# Altium schematic symbol library serial_integrated_circuits.SchLib: 15 symbols
Pins are listed as number, name and electrical type; pins without a type are passive.

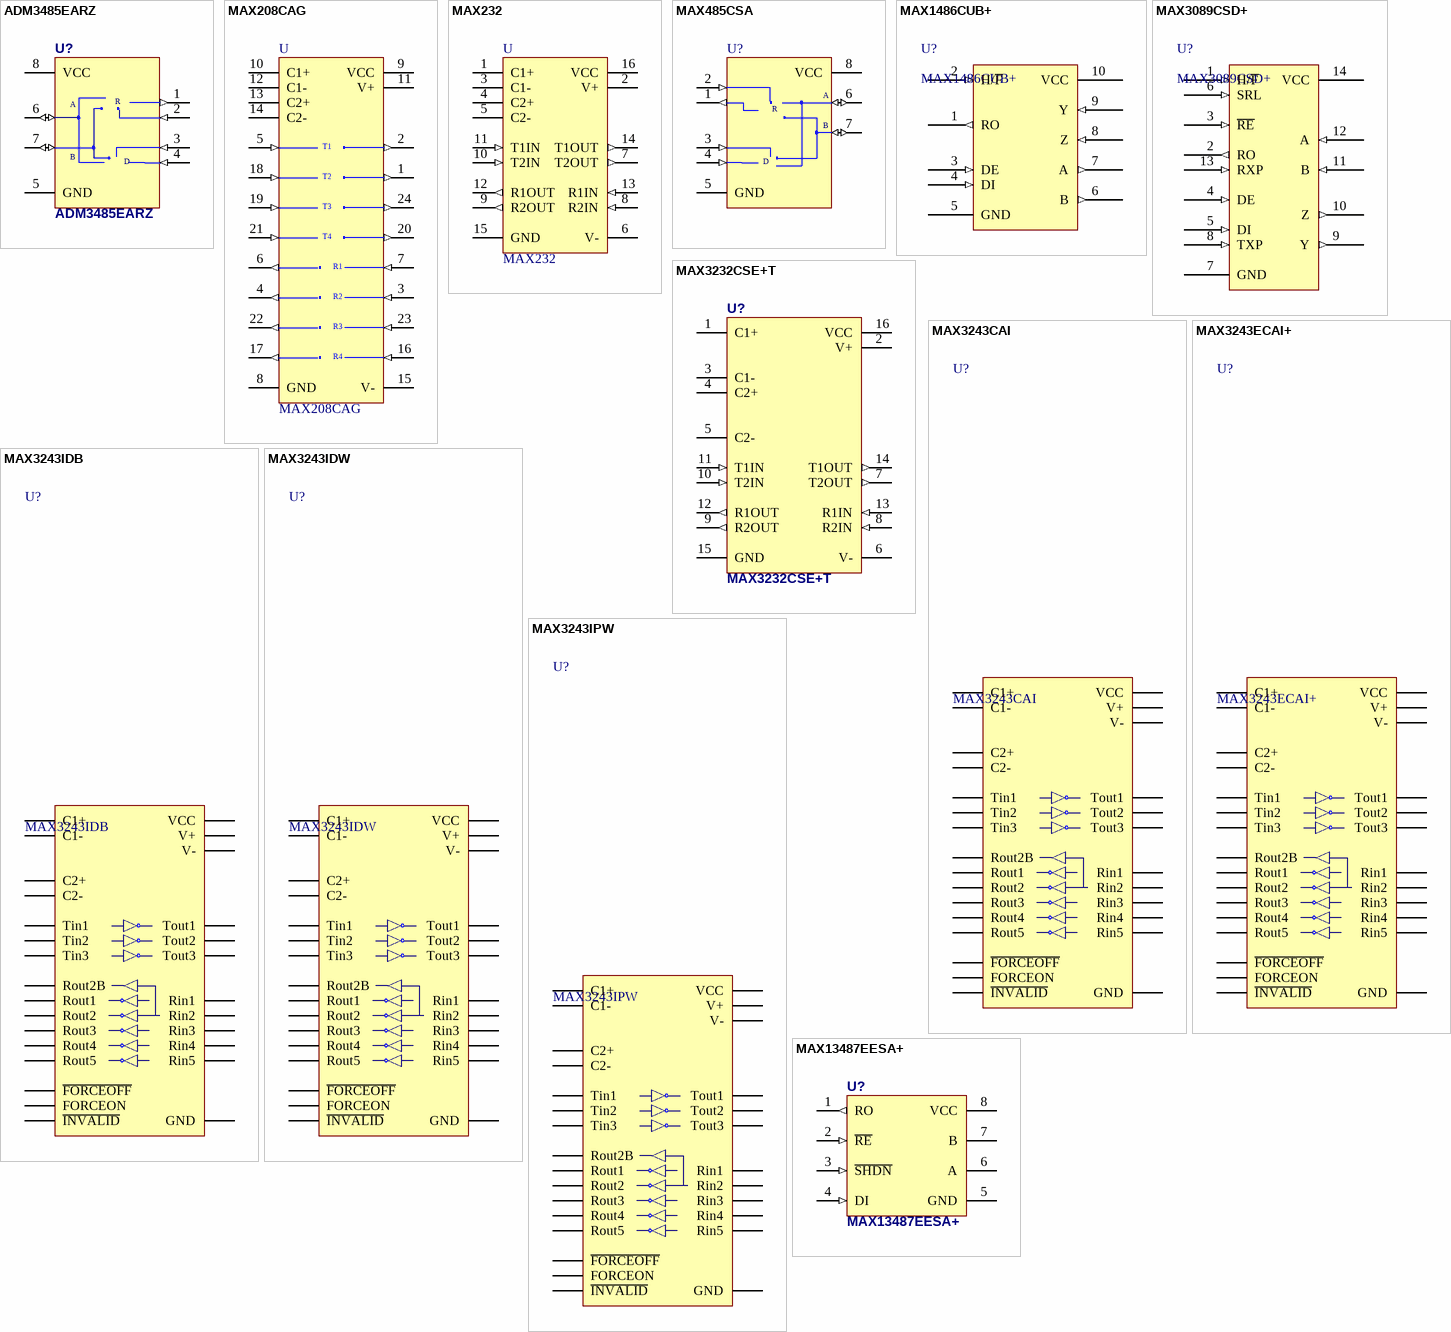
[diagram p0: symbols ADM3485EARZ to MAX13487EESA+]

## ADM3485EARZ
designator U?
Low-Power, 10Mbps, 3V3, RS-485/RS-422 Transceiver (TME ADM3485ARZ); Published: 14-Aug-2008; LatestRevisionNote: IPC-7351 Footprint Added.; PackageReference: R-8; Publisher: mmakow; PackageDescription: 8-Pin Small Outline Integrated Circuit 1.27 mm Pitch
footprint SO8 (Small Outline; 8 Leads; Body Width 3.7 mm; Pitch 1.27 mm)
pins: 1 RO (out), 2 ~{RE} (in), 3 DE (in), 4 DI (in), 5 GND (power), 6 A (io), 7 B (io), 8 VCC (power)
text: R; D

## MAX208CAG
designator U
+5V RS-232 Transceiver with 0.1µF External Capacitor; Published: 16-Jan-2001; LatestRevisionDate: 06-Jun-2005; LatestRevisionNote: Stylized 3D Model Added.; DatasheetVersion: Dec-1996; PackageVersion: 1996; PackageReference: SSOP24; Publisher: Altium Limited; PackageDescription: SSOP; 24 Leads; Body Width 5.3 mm; Pitch 0.65 mm; ComponentLink1Description: Manufacturer Link; ComponentLink1URL: http://www.maxim-ic.com/; ComponentLink2Description: Datasheet; ComponentLink2URL: http://pdfserv.maxim-ic.com/en/ds/MAX200-MAX213.pdf
footprint SSOP24
pins: 1 T2OUT (out), 2 T1OUT (out), 3 R2IN (in), 4 R2OUT (out), 5 T1IN (in), 6 R1OUT (out), 7 R1IN (in), 8 GND (power), 9 VCC (power), 10 C1+, 11 V+ (power), 12 C1-, 13 C2+, 14 C2-, 15 V- (power), 16 R4IN (in), 17 R4OUT (out), 18 T2IN (in), 19 T3IN (in), 20 T4OUT (out), 21 T4IN (in), 22 R3OUT (out), 23 R3IN (in), 24 T3OUT (out)
text: T1; T2; T3; T4; R1; R2; R3; R4

## MAX232
designator U
+5V Powered, Multi-Channel RS-232 Driver/Receiver; Code - JEDEC: MS-012-AC; Code - IPC: SO16; Published: 16-Jan-2001; Revision: 17-Jul-2002: Re-released for DXP Platform.; Package Reference: NSO16; Publisher: Altium Limited
footprint SO16 (Small Outline; 16 Leads; Body Width 3.9 mm; Pitch 1.27 mm)
footprint SO16NW
pins: 1 C1+, 2 V+ (power), 3 C1-, 4 C2+, 5 C2-, 6 V- (power), 7 T2OUT (out), 8 R2IN (in), 9 R2OUT (out), 10 T2IN (in), 11 T1IN (in), 12 R1OUT (out), 13 R1IN (in), 14 T1OUT (out), 15 GND (power), 16 VCC (power)

## MAX485CSA
designator U?
Low-Power, Slew-Rate-Limited RS-485/RS-422 Transceiver; Published: 16-Jan-2001; LatestRevisionDate: 13-Apr-2006; LatestRevisionNote: IPC-7351 Footprint Added.; DatasheetVersion: Feb-1996; PackageReference: NSO8; Publisher: Altium Limited; PackageDescription: 8-Pin Small Outline Integrated Circuit 1.27 mm Pitch; Code_JEDEC: MS-012-AA; Code_IPC: SOIC127P600-8; ComponentLink1Description: Manufacturer Link; ComponentLink1URL: http://www.maxim-ic.com/; ComponentLink2Description: Datasheet; ComponentLink2URL: http://pdfserv.maxim-ic.com/en/ds/MAX1487-MAX491.pdf
footprint SO8 (Small Outline; 8 Leads; Body Width 3.7 mm; Pitch 1.27 mm)
pins: 1 RO (out), 2 ~{RE} (in), 3 DE (in), 4 DI (in), 5 GND (power), 6 A (io), 7 B (io), 8 VCC (power)
text: R; D

## MAX1486CUB+
designator U?
12Mbps, Half-/Full-Duplex Selectable, Slew-Rate-Limited, RS485/RS422 Transciver
pins: 1 RO (out), 2 H/~{F} (in), 3 DE (in), 4 DI (in), 5 GND (power), 6 B (out), 7 A (out), 8 Z (in), 9 Y (in), 10 VCC (power)

## MAX3089CSD+
designator U?
Fail-Safe, High-Speed (10Mbps), Half/Full Duplex Selectable, Slew-Rate Limited RS485/RS422 Transciver
footprint DIP14
footprint SO14 (Small Outline; 14 Leads; Body Width 3.9 mm; Pitch 1.27 mm)
pins: 1 H/~{F} (in), 2 RO (out), 3 ~{RE} (in), 4 DE (in), 5 DI (in), 6 SRL (in), 7 GND (power), 8 TXP (in), 9 Y (out), 10 Z (out), 11 B (in), 12 A (in), 13 RXP (in), 14 VCC (power)

## MAX3232CSE+T
designator U?
3.0V TO 5.5V, Low-Power, up to 1Mbps, True RS-232 Transceiver Using Four 0.1µF External Capacitor; Code - JEDEC: MS-012-AC; Code - IPC: SO16; Published: 16-Jan-2001; Revision: 17-Jul-2002: Re-released for DXP Platform.; Datasheet: Latest Revision: Mar-1999; Package Reference: NSO16; Publisher: Altium Limited
footprint SO16 (Small Outline; 16 Leads; Body Width 3.9 mm; Pitch 1.27 mm)
footprint SO16NW
pins: 1 C1+, 2 V+ (power), 3 C1-, 4 C2+, 5 C2-, 6 V- (power), 7 T2OUT (out), 8 R2IN (in), 9 R2OUT (out), 10 T2IN (in), 11 T1IN (in), 12 R1OUT (out), 13 R1IN (in), 14 T1OUT (out), 15 GND (power), 16 VCC (power)

## MAX3243CAI
designator U?
1uA, 3V to 5.5V Multichannel RS232 Line Driver/Receiver; Symbol: MAX3243ECAI; ComponentLink1Description: Manufacturer Link; ComponentLink1URL: http://www.maximintegrated.com/datasheet/index.mvp/id/1069; ComponentLink2Description: Datasheet; ComponentLink2URL: http://datasheets.maximintegrated.com/en/ds/MAX3221-MAX3243.pdf
footprint SSOP28
pins: 1 C2+ "Shield", 2 C2- "Shield", 3 V- "Shield", 4 Rin1 "Shield", 5 Rin2 "Shield", 6 Rin3 "Shield", 7 Rin4 "Shield", 8 Rin5 "Shield", 9 Tout1 "Shield", 10 Tout2 "Shield", 11 Tout3 "Shield", 12 Tin3 "Shield", 13 Tin2 "Shield", 14 Tin1 "Shield", 15 Rout5 "Shield", 16 Rout4 "Shield", 17 Rout3 "Shield", 18 Rout2 "Shield", 19 Rout1 "Shield", 20 Rout2B "Shield", 21 ~{INVALID} "Shield", 22 ~{FORCEOFF} "Shield", 23 FORCEON "Shield", 24 C1- "Shield", 25 GND "Shield", 26 VCC "Shield", 27 V+ "Shield", 28 C1+ "Shield"

## MAX3243ECAI+
designator U?
15kV ESD-Protected, 1uA, 3V to 5.5V Multichannel RS232 Line Driver/Receiver; Symbol: MAX3243ECAI; ComponentLink1Description: Manufacturer Link; ComponentLink1URL: http://www.maximintegrated.com/datasheet/index.mvp/id/1781; ComponentLink2Description: Datasheet; ComponentLink2URL: http://datasheets.maximintegrated.com/en/ds/MAX3221E-MAX3243E.pdf
footprint SSOP28
pins: 1 C2+ "Shield", 2 C2- "Shield", 3 V- "Shield", 4 Rin1 "Shield", 5 Rin2 "Shield", 6 Rin3 "Shield", 7 Rin4 "Shield", 8 Rin5 "Shield", 9 Tout1 "Shield", 10 Tout2 "Shield", 11 Tout3 "Shield", 12 Tin3 "Shield", 13 Tin2 "Shield", 14 Tin1 "Shield", 15 Rout5 "Shield", 16 Rout4 "Shield", 17 Rout3 "Shield", 18 Rout2 "Shield", 19 Rout1 "Shield", 20 Rout2B "Shield", 21 ~{INVALID} "Shield", 22 ~{FORCEOFF} "Shield", 23 FORCEON "Shield", 24 C1- "Shield", 25 GND "Shield", 26 VCC "Shield", 27 V+ "Shield", 28 C1+ "Shield"

## MAX3243IDB
designator U?
3V to 5.5V Multichannel RS232 Line Driver/Receiver, -40-85*C, SSOP28 Package; Symbol: MAX3243ECAI; ComponentLink1Description: Manufacturer Link; ComponentLink1URL: http://www.ti.com/product/max3243; ComponentLink2Description: Datasheet; ComponentLink2URL: http://www.ti.com/lit/ds/symlink/max3243.pdf
footprint SSOP28
pins: 1 C2+ "Shield", 2 C2- "Shield", 3 V- "Shield", 4 Rin1 "Shield", 5 Rin2 "Shield", 6 Rin3 "Shield", 7 Rin4 "Shield", 8 Rin5 "Shield", 9 Tout1 "Shield", 10 Tout2 "Shield", 11 Tout3 "Shield", 12 Tin3 "Shield", 13 Tin2 "Shield", 14 Tin1 "Shield", 15 Rout5 "Shield", 16 Rout4 "Shield", 17 Rout3 "Shield", 18 Rout2 "Shield", 19 Rout1 "Shield", 20 Rout2B "Shield", 21 ~{INVALID} "Shield", 22 ~{FORCEOFF} "Shield", 23 FORCEON "Shield", 24 C1- "Shield", 25 GND "Shield", 26 VCC "Shield", 27 V+ "Shield", 28 C1+ "Shield"

## MAX3243IDW
designator U?
3V to 5.5V Multichannel RS232 Line Driver/Receiver, -40-85*C, SO28 Package; Symbol: MAX3243ECAI; ComponentLink1Description: Manufacturer Link; ComponentLink1URL: http://www.ti.com/product/max3243; ComponentLink2Description: Datasheet; ComponentLink2URL: http://www.ti.com/lit/ds/symlink/max3243.pdf
footprint SO28 (Small Outline; 28 Leads; Body Width 8.38 mm; Pitch 1.27 mm)
pins: 1 C2+ "Shield", 2 C2- "Shield", 3 V- "Shield", 4 Rin1 "Shield", 5 Rin2 "Shield", 6 Rin3 "Shield", 7 Rin4 "Shield", 8 Rin5 "Shield", 9 Tout1 "Shield", 10 Tout2 "Shield", 11 Tout3 "Shield", 12 Tin3 "Shield", 13 Tin2 "Shield", 14 Tin1 "Shield", 15 Rout5 "Shield", 16 Rout4 "Shield", 17 Rout3 "Shield", 18 Rout2 "Shield", 19 Rout1 "Shield", 20 Rout2B "Shield", 21 ~{INVALID} "Shield", 22 ~{FORCEOFF} "Shield", 23 FORCEON "Shield", 24 C1- "Shield", 25 GND "Shield", 26 VCC "Shield", 27 V+ "Shield", 28 C1+ "Shield"

## MAX3243IPW
designator U?
3V to 5.5V Multichannel RS232 Line Driver/Receiver, -40-85*C, TSSOP28 Package; Symbol: MAX3243ECAI; ComponentLink1Description: Manufacturer Link; ComponentLink1URL: http://www.ti.com/product/max3243; ComponentLink2Description: Datasheet; ComponentLink2URL: http://www.ti.com/lit/ds/symlink/max3243.pdf
footprint TSSOP28
pins: 1 C2+ "Shield", 2 C2- "Shield", 3 V- "Shield", 4 Rin1 "Shield", 5 Rin2 "Shield", 6 Rin3 "Shield", 7 Rin4 "Shield", 8 Rin5 "Shield", 9 Tout1 "Shield", 10 Tout2 "Shield", 11 Tout3 "Shield", 12 Tin3 "Shield", 13 Tin2 "Shield", 14 Tin1 "Shield", 15 Rout5 "Shield", 16 Rout4 "Shield", 17 Rout3 "Shield", 18 Rout2 "Shield", 19 Rout1 "Shield", 20 Rout2B "Shield", 21 ~{INVALID} "Shield", 22 ~{FORCEOFF} "Shield", 23 FORCEON "Shield", 24 C1- "Shield", 25 GND "Shield", 26 VCC "Shield", 27 V+ "Shield", 28 C1+ "Shield"

## MAX13487EESA+
designator U?  (no BOM)
Half-Duplex RS-485-/RS-422-  Compatible Transceiver with  AutoDirection Control; Published: 14-Sep-2006; Supplier 1: Farnell; Supplier 2: Farnell; Supplier Part Number 1: 2511933RL; Supplier Part Number 2: 1593308
footprint SO8 (Small Outline; 8 Leads; Body Width 3.7 mm; Pitch 1.27 mm)
pins: 1 RO (out), 2 ~{RE} (in), 3 ~{SHDN} (in), 4 DI (in), 5 GND, 6 A, 7 B, 8 VCC

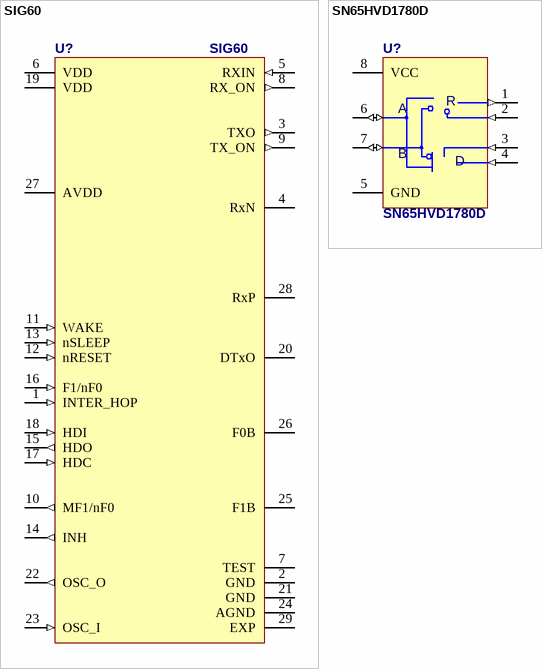
[diagram p1: symbols SIG60 to SN65HVD1780D]

## SIG60
designator U?
UART over Powerline,  for AC/DC Multiplex Network
footprint QFN-ML28_N (QFN, 28-Leads, Body 6x6 mm, Pitch 0.65mm, IPC Medium Density)
pins: 1 INTER_HOP (in), 2 GND, 3 TXO (out), 4 RxN, 5 RXIN (in), 6 VDD, 7 TEST, 8 RX_ON (out), 9 TX_ON (out), 10 MF1/nF0 (out), 11 WAKE (in), 12 nRESET (in), 13 nSLEEP (in), 14 INH (out), 15 HDO (out), 16 F1/nF0 (in), 17 HDC (in), 18 HDI (in), 19 VDD, 20 DTxO, 21 GND, 22 OSC_O (out), 23 OSC_I (in), 24 AGND, 25 F1B, 26 F0B, 27 AVDD, 28 RxP, 29 EXP

## SN65HVD1780D
designator U?
Fault-Protected RS-485 Transceivers with 3.3-V to 5-V Operation; Published: 14-Aug-2008; LatestRevisionNote: IPC-7351 Footprint Added.; PackageReference: R-8; Publisher: mmakow; PackageDescription: 8-Pin Small Outline Integrated Circuit 1.27 mm Pitch
footprint SO8 (Small Outline; 8 Leads; Body Width 3.7 mm; Pitch 1.27 mm)
pins: 1 RO (out), 2 ~{RE} (in), 3 DE (in), 4 DI (in), 5 GND (power), 6 A (io), 7 B (io), 8 VCC (power)
text: R; D